# Altium schematic symbol library Switch 6mm 24V.SchLib: 1 symbol
Pins are listed as number, name and electrical type; pins without a type are passive.

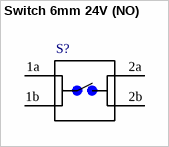
[diagram p0: symbol Switch 6mm 24V (NO)]

## Switch 6mm 24V (NO)
designator S?, comment 1825910-7  (value not drawn)
FSM4JAH=6MM TACT SWITCH, HIGH TEMP; MF: TE Connectivity; Value: *; Digi-Key_Part_Number: CKN9065-ND; ComponentLink1Description: Digi-Key_Purchase_URL; ComponentLink1URL: https://www.digikey.com/en/products/detail/c-k/TDA04H0SB1/1083755; ComponentLink2Description: Datasheet Link; ComponentLink2URL: https://www.ckswitches.com/media/1328/tda.pdf
footprint Switch 6mm 24V (NO)
pins: 1a, 1b, 2a, 2b